# Altium footprint library 2PIN对插连接器.PcbLib: 1 footprints
Each footprint in its own frame and in the unit in brackets; x right, y up, seen from the top. Pads: shape width x height; smd on the part's side, far side on the other; paste and mask are expansions set on the pad; w line width, h text height; cw(c..) or ccw(c..) is an arc to the next point about the centre after c.
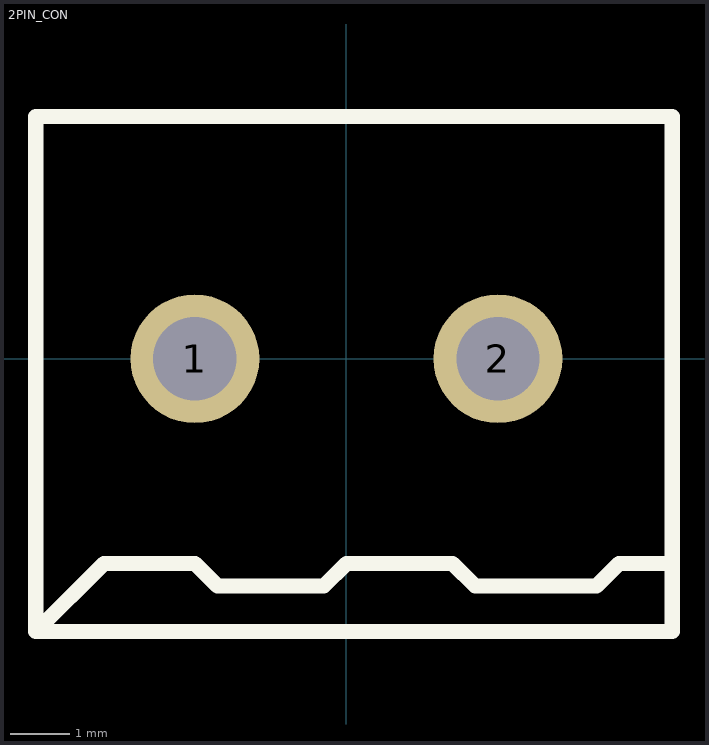
[diagram p0: the footprint, top view; thin cyan lines are the x and y axes]

## 2PIN_CON [mil] "对插连接器"
pads (2):
  round 85 hole 55: 1(-100,0) 2(100,0)
Top Overlay:
  lines w10: 215,-135 180,-135 165,-150 85,-150 70,-135 0,-135 -15,-150 -85,-150 -100,-135 -160,-135 -205,-180 ; -205,-180 -205,160 215,160 215,-180 -205,-180